# Altium schematic symbol library switches_toggle.SchLib: 1 symbol
Pins are listed as number, name and electrical type; pins without a type are passive.

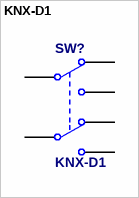
[diagram p0: symbol KNX-D1]

## KNX-D1
designator SW?
toggle; 2-position; DPDT; ON-ON; 3A/250VAC; Cutout: Ø6mm; Published: 24-Mar-1999; LatestRevisionDate: 29-May-2009; LatestRevisionNote: IPC-7351 Footprint Added.; PackageVersion: Mar-2001; PackageReference: SOT23-6; Publisher: Altium Limited; PackageDescription: 6-Pin SOT-23 Package 0.95 mm Pitch, 2.7 mm Lead Span; Code_JEITA: SC-74; Code_IPC: SOT26A-6
footprint KNX2-D1
pins: 1 NC1, 2 COMMON1, 3 NO1, 4 NC2, 5 COMMON2, 6 NO2